# EAGLE library part SN74LVC2G14 (library sn74lvc2g14)
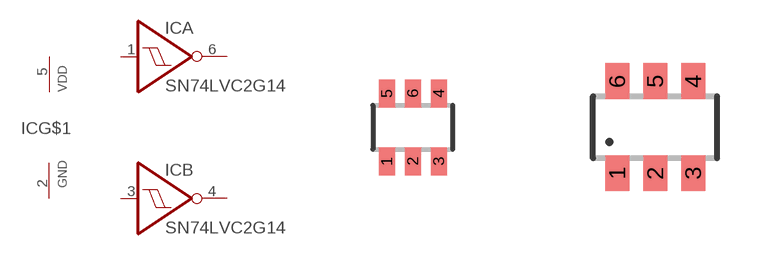
[diagram p0: symbol with the pads of SC70-6; footprints SC70-6, SOT23-6]

Designator prefix IC; gates G$1=POWER A=7414 B=7414

## SN74LVC2G14DCK  [SC70-6]
1  A:I  in
2  G$1:V-  pwr
3  B:I  in
4  B:O  out
5  G$1:V+  pwr
6  A:O  out

## SN74LVC2G14DBV  [SOT23-6]
Pads as for SC70-6

## Footprint SC70-6 (pad centres in mm)
SMT SC70-6
smd 0.4 x 0.7: 1 -0.65,-0.85; 2 0,-0.85; 3 0.65,-0.85; 4 0.65,0.85; 5 -0.65,0.85; 6 0,0.85

## Footprint SOT23-6 (pad centres in mm)
Small Outline Transistor 6 lead
smd 0.6 x 0.9: 1 -0.95,-1.15; 2 0,-1.15; 3 0.95,-1.15; 4 0.95,1.15; 5 0,1.15; 6 -0.95,1.15